# EAGLE library part AP5724 (library Custom)
White LED step-up converter
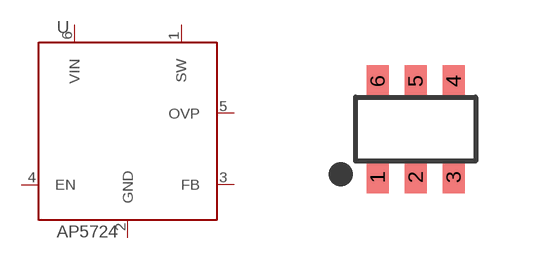
[diagram p16: symbol with the pads of SOT-26; footprint SOT-26]

Designator prefix U

## AP5724  [SOT-26]
1  SW
2  GND  pwr
3  FB  in
4  EN  in
5  OVP  in
6  VIN  pwr

## Footprint SOT-26 (pad centres in mm)
smd 0.55 x 0.8: 1 -0.95,-1.2; 2 0,-1.2; 3 0.95,-1.2; 4 0.95,1.2; 5 0,1.2; 6 -0.95,1.2